# Altium footprint library LED-Driver.PcbLib: 37 footprints (part 2 of 3)
Each footprint in its own frame and in the unit in brackets; x right, y up, seen from the top. Pads: shape width x height; smd on the part's side, far side on the other; paste and mask are expansions set on the pad; w line width, h text height; cw(c..) or ccw(c..) is an arc to the next point about the centre after c.
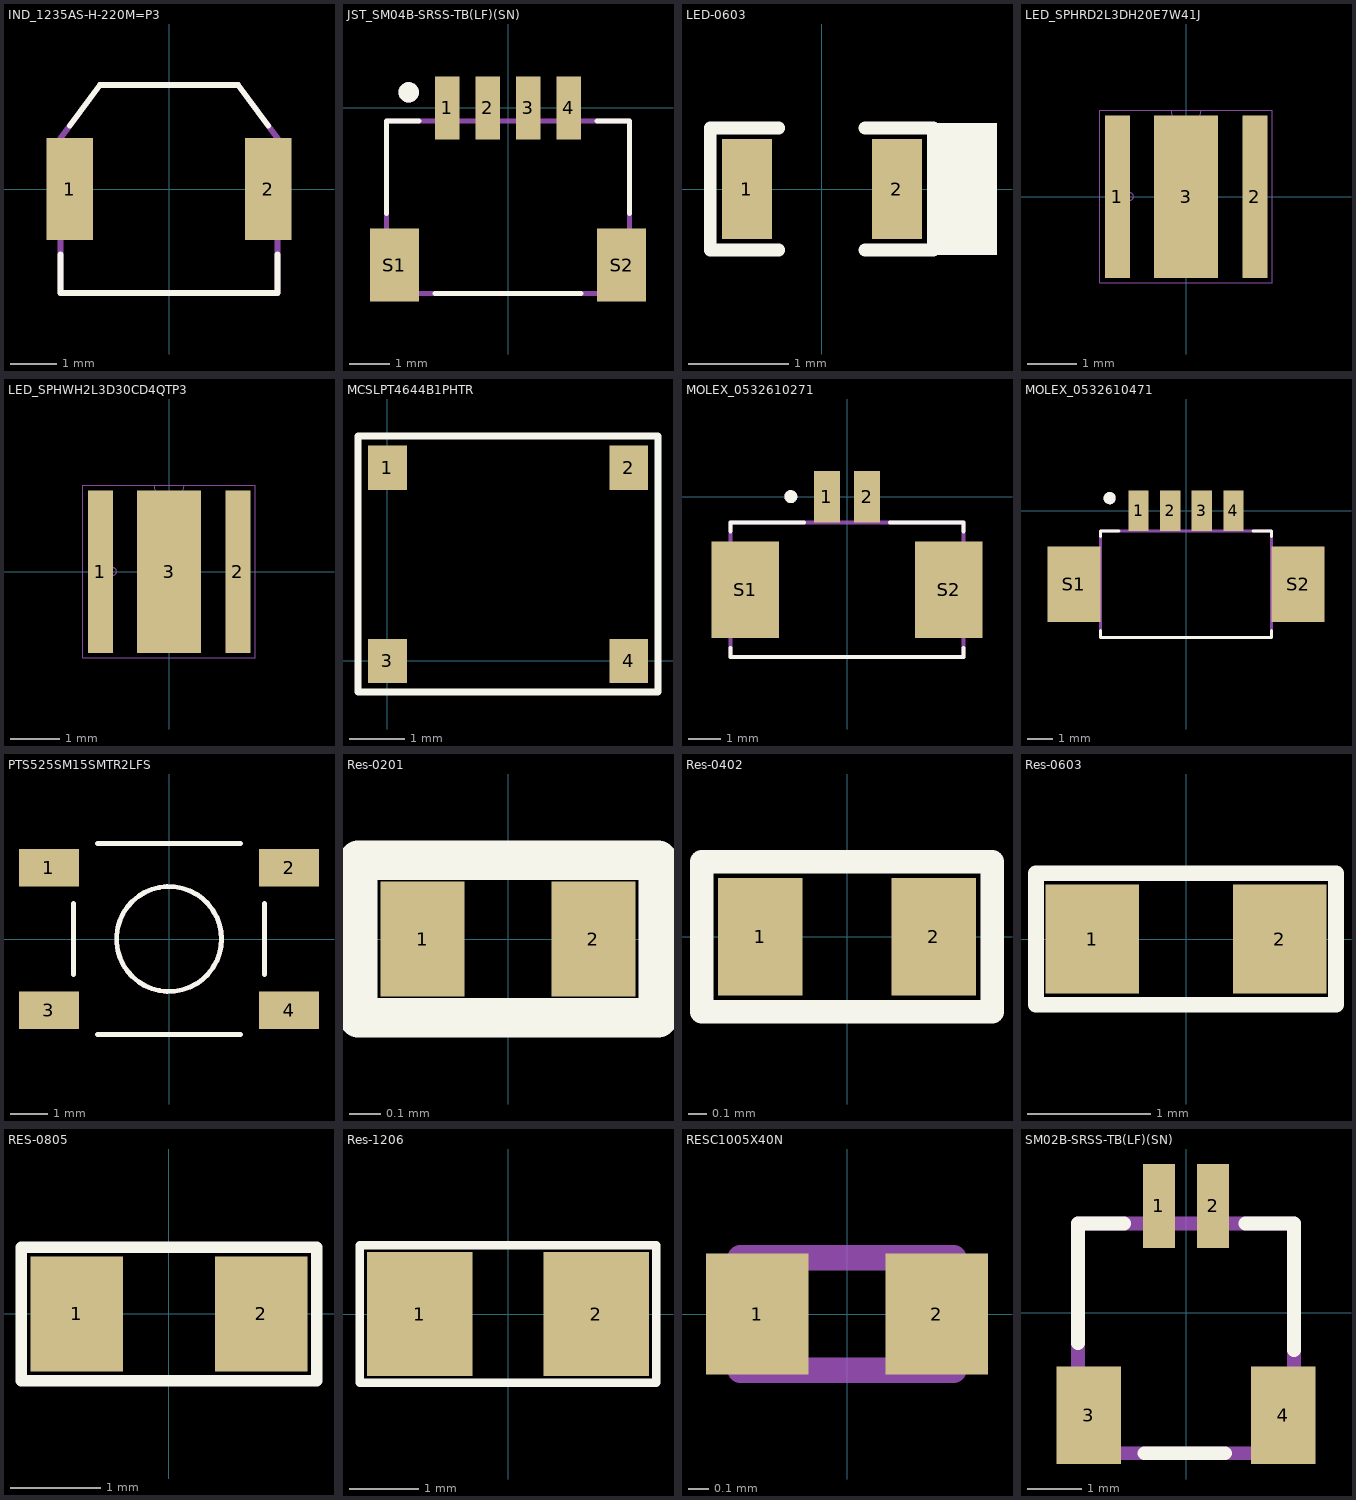
[diagram p1: the footprints below, top view; thin cyan lines are the x and y axes]

## IND_1235AS-H-220M=P3 [mm]
pads (2):
  rect 1x2.2 smd: 1(-2.15,0) 2(2.15,0)
Top Overlay:
  lines w0.127: -2.35,-1.42 -2.35,-2.25 2.35,-2.25 2.35,-1.42 ; -2.15,1.37 -1.5,2.25 1.5,2.25 2.15,1.37
Mechanical 13:
  lines w0.127: -2.35,-2.25 2.35,-2.25 2.35,1.1 1.5,2.25 -1.5,2.25 -2.35,1.1 -2.35,-2.25
3D body "1235AS-H-220M=P3--3DModel-STEP-46669.STEP": height 1.79, standoff -0.01, extent -2.35,-2.286 2.35,2.214

## JST_SM04B-SRSS-TB(LF)(SN) [mm]
pads (6):
  rect 0.6x1.55 smd: 1(-1.5,0) 2(-0.5,0) 3(0.5,0) 4(1.5,0)
  rect 1.2x1.8 smd: S1(-2.8,-3.875) S2(2.8,-3.875)
Top Overlay:
  circle w0.3: c-2.45,0.385 r0.1
  lines w0.127: -3,-2.6 -3,-0.325 -2.2,-0.325 ; -1.8,-4.575 1.8,-4.575 ; 2.2,-0.325 3,-0.325 3,-2.6
Mechanical 13:
  circle w0.3: c-2.45,0.385 r0.1
  lines w0.127: -3,-4.575 3,-4.575 3,-0.325 -3,-0.325 -3,-4.575
3D body "SM04B-SRSS-TB (LF)(SN)--3DModel-STEP-269445.STEP": height 2.91, standoff -0.05, extent -2.921,-4.572 3.079,0.377

## LED-0603 [mm]
pads (2):
  rect 0.5x1 smd: 1(-0.75,0) 2(0.75,0)
Top Overlay:
  rectangle: 1.118,-0.66 1.753,0.66
  lines w0.127: -0.432,-0.61 -1.118,-0.61 -1.118,0.61 -0.432,0.61 ; 0.432,-0.61 1.118,-0.61 1.118,0.61 0.432,0.61
3D body "User Library-LED SMD0603.step": height 0.68, standoff 0, extent -0.825,-0.369 0.825,0.356

## LED_SPHRD2L3DH20E7W41J [mil] "LED LH351H DEEP RED 638NM"
pads (3):
  rect 20x130 smd paste+0 mask+0: 1(-55,0) 2(55,0)
  rect 51x130 smd paste+0 mask+0: 3(0,0)
Top Paste:
  region: 21.56,-3.94 -21.56,-3.94 -21.56,-61.06 21.56,-61.06
  region: 21.56,61.06 -21.56,61.06 -21.56,3.94 21.56,3.94
Mechanical 13:
  circle w0: c-45,0 r3
  lines w0: -12,69 ccw(c0,69) 12,69
  lines w1: -69,-69 -69,69 69,69 69,-69 -69,-69
3D body "LH351B-v3.STEP": height 80.31, standoff -0.79, extent -68.9,-68.9 68.9,68.9

## LED_SPHWH2L3D30CD4QTP3 [mil] "LED Lighting LH351B White, Cool 5700K"
pads (3):
  rect 20x130 smd paste+0 mask+0: 1(-55,0) 2(55,0)
  rect 51x130 smd paste+0 mask+0: 3(0,0)
Top Paste:
  region: 21.56,-3.94 -21.56,-3.94 -21.56,-61.06 21.56,-61.06
  region: 21.56,61.06 -21.56,61.06 -21.56,3.94 21.56,3.94
Mechanical 13:
  circle w0: c-45,0 r3
  lines w0: -12,69 ccw(c0,69) 12,69
  lines w1: -69,-69 -69,69 69,69 69,-69 -69,-69
3D body "LH351B.STEP": height 74.8, standoff -0.79, extent -68.8,-68.9 69,68.9

## MCSLPT4644B1PHTR [mm]
pads (4):
  rect 0.7x0.8 smd: 1(0,3.5) 2(4.375,3.5) 3(0,0) 4(4.375,0)
Top Overlay:
  lines w0.127: -0.535,-0.563 4.904,-0.563 4.904,4.074 -0.535,4.074 -0.535,-0.563

## MOLEX_0532610271 [mm]
height 3.4
pads (4):
  rect 0.8x1.6 smd: 1(-0.625,0) 2(0.625,0)
  rect 2.1x3 smd: S1(-3.175,-2.9) S2(3.175,-2.9)
Top Overlay:
  circle w0.2: c-1.75,0 r0.1
  lines w0.127: -3.625,-4.72 -3.625,-5 3.625,-5 3.625,-4.72 ; -3.625,-1.08 -3.625,-0.8 -1.345,-0.8 ; 1.345,-0.8 3.625,-0.8 3.625,-1.08
Mechanical 13:
  circle w0.2: c-1.75,0 r0.1
  lines w0.127: -3.625,-5 -3.625,-0.8 3.625,-0.8 3.625,-5 -3.625,-5
3D body "0532610271.STEP": height 3.21, standoff -0.19, extent -3.825,-4.927 3.825,0.273

## MOLEX_0532610471 [mm]
pads (6):
  rect 0.8x1.6 smd: 1(-1.875,0) 2(-0.625,0) 3(0.625,0) 4(1.875,0)
  rect 2.1x3 smd: S1(-4.425,-2.9) S2(4.425,-2.9)
Top Overlay:
  circle w0.24: c-3.015,0.5 r0.12
  lines w0.127: -3.375,-4.725 -3.375,-5 3.375,-5 3.375,-4.725 ; -3.375,-1 -3.375,-0.8 -2.65,-0.8 ; 2.65,-0.8 3.375,-0.8 3.375,-1
Mechanical 13:
  circle w0.24: c-3.015,0.5 r0.12
  lines w0.127: -3.375,-5 -3.375,-0.8 3.375,-0.8 3.375,-5 -3.375,-5
3D body "step_temp.STEP": height 3.4, standoff -0.05, extent -5.075,-5.021 5.075,0.179

## PTS525SM15SMTR2LFS [mm]
pads (4):
  rect 1.6x1 smd: 1(-3.2,1.9) 2(3.2,1.9) 3(-3.2,-1.9) 4(3.2,-1.9)
Top Overlay:
  circle w0.127: c0,0 r1.4
  lines w0.127: -2.55,-0.956 -2.55,0.956 ; -1.913,-2.55 1.913,-2.55 ; -1.913,2.55 1.913,2.55 ; 2.55,-0.956 2.55,0.956
Mechanical 13:
  circle w0.127: c0,0 r1.4
3D body "step_temp.STEP": height 1.6, standoff 0, extent -3.2,-2.55 3.2,2.55

## Res-0201 [mm]
pads (2):
  rect 0.27x0.37 smd mask+0.055: 1(-0.275,0) 2(0.275,0)
Top Overlay:
  lines w0.127: -0.483,-0.254 -0.483,0.254 0.483,0.254 0.483,-0.254 -0.483,-0.254
3D body "User Library-0201(0603M) Res.step": height 0.29, standoff -0.02, extent -0.305,-0.152 0.305,0.153

## Res-0402 [mil]
pads (2):
  rect 18x25 smd mask+2.17: 1(-18.5,0) 2(18.5,0)
Top Overlay:
  lines w0.13: -32,-17 32,-17
  lines w5: -31,-16 31,-16 31,16 -31,16 -31,-16
3D body "User Library-RES_1005-0402.step": height 16.14, standoff 0, extent -22.63,-10.82 22.64,10.83

## Res-0603 [mil]
pads (2):
  rect 30x35 smd: 1(-30,0) 2(30,0)
Top Overlay:
  lines w5: -48,-21 -48,21 48,21 48,-21 -48,-21
3D body "User Library-RESC1608X05N.step": height 17.76, standoff 0, extent -30.52,-16.74 30.51,16.73

## RES-0805 [mil] "SMD 0805"
pads (2):
  rect 40x50 smd: 1(-40,0) 2(40,0)
Top Overlay:
  lines w5: -64,-29 64,-29 64,29 -64,29 -64,-29
3D body "User Library-CR2012-0805.STEP": height 23.62, standoff 0, extent -39.34,-24.75 39.4,24.46

## Res-1206 [mil]
pads (2):
  rect 60x70 smd: 1(-50,0) 2(50,0)
Top Overlay:
  lines w5: -84,-39 -84,39 84,39 84,-39 -84,-39
3D body "User Library-CR3216-1206.step": height 23.62, standoff 0, extent -62.99,-31.5 62.99,31.5

## RESC1005X40N [mm]
pads (2):
  rect 0.51x0.6 smd: 1(-0.445,0) 2(0.445,0)
Mechanical 13:
  lines w0.127: -0.53,-0.28 -0.53,0.28 0.53,0.28 0.53,-0.28 -0.53,-0.28
3D body "RCS040220R0FKED.STEP": height 0.41, standoff 0.01, extent -0.5,-0.246 0.5,0.254

## SM02B-SRSS-TB(LF)(SN) [mm]
pads (4):
  rect 0.6x1.55 smd: 1(-0.5,1.975) 2(0.5,1.975)
  rect 1.2x1.8 smd: 3(-1.8,-1.9) 4(1.8,-1.9)
Top Overlay:
  lines w0.254: -2,-0.563 -2,1.65 -1.145,1.65 ; -0.767,-2.6 0.722,-2.6 ; 1.1,1.65 2,1.65 2,-0.697
Mechanical 13:
  lines w0.254: -2,-2.6 2,-2.6 2,1.65 -2,1.65 -2,-2.6
3D body "SM02B-SRSS-TB-LF--SN---3DModel-STEP-56544.STEP": height 2.91, standoff -0.04, extent -2,-2.729 2,2.221